# Altium schematic symbol library aiskylab-06IC-04PWR.SchLib: 16 symbols
Pins are listed as number, name and electrical type; pins without a type are passive.

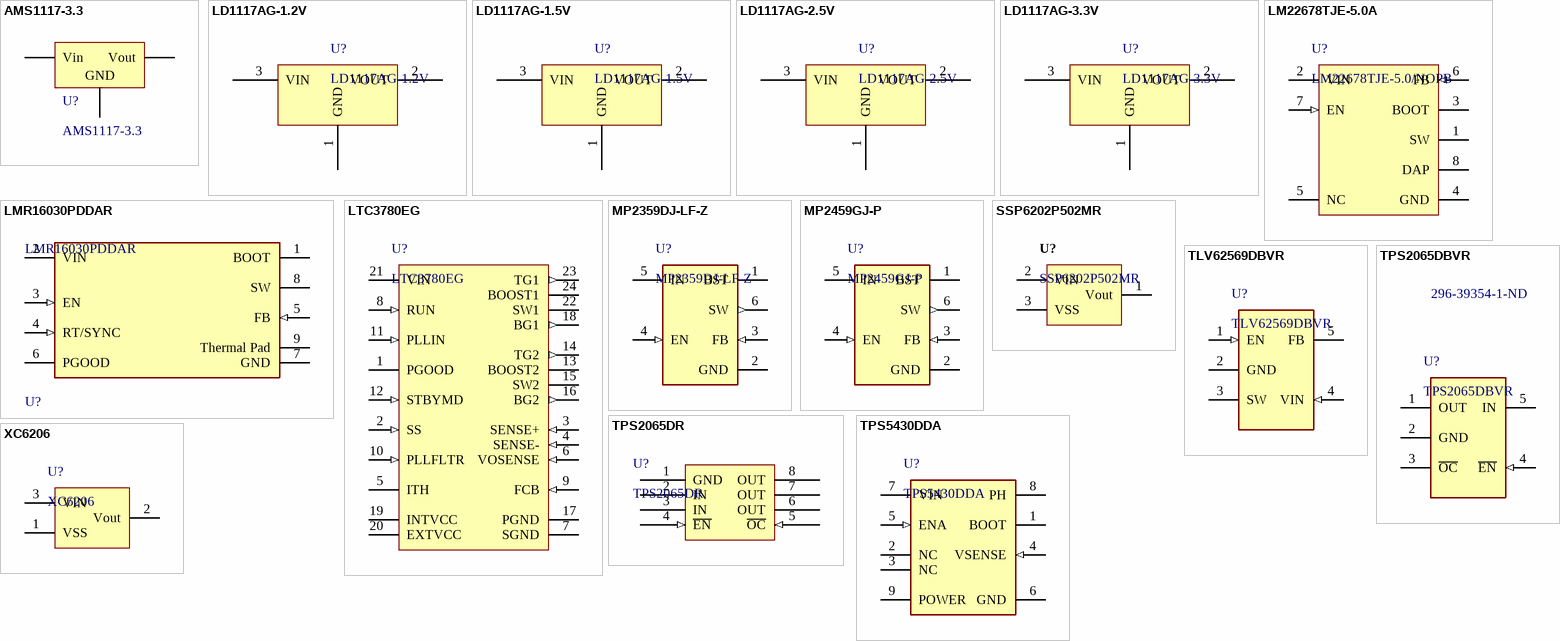
[diagram p0: symbols AMS1117-3.3 to XC6206]

## AMS1117-3.3
designator U?
低压差线性稳压(LDO); ComponentLink1Description: 供应商链接; ComponentLink1URL: http://www.szlcsc.com/product/details_6652.html; Package: SOT-223; Supplier: LC; SuppliersPartNumber: C6186
footprint SOT-223
pins: 1 GND, 2 Vout, 3 Vin

## LD1117AG-1.2V
designator U?
LDO, 输出类型：固定 最大输入电压：18V 输出电流：1A
footprint SOT-223
pins: 1 GND, 2 VOUT, 3 VIN

## LD1117AG-1.5V
designator U?
LDO, 输出类型：固定 最大输入电压：18V 输出电流：1A
footprint SOT-223
pins: 1 GND, 2 VOUT, 3 VIN

## LD1117AG-2.5V
designator U?
LDO, 输出类型：固定 最大输入电压：18V 输出电流：1A
footprint SOT-223
pins: 1 GND, 2 VOUT, 3 VIN

## LD1117AG-3.3V
designator U?
LDO, 输出类型：固定 最大输入电压：18V 输出电流：1A
footprint SOT-223
pins: 1 GND, 2 VOUT, 3 VIN

## LM22678TJE-5.0A
designator U?, comment LM22678TJE-5.0/NOPB
5A SIMPLE SWITCHER®, Step-Down Voltage Regulator with Precision Enable, 7-pin TO-263 Thin, Pb-Free; Manufacturer: National Semiconductor; PackageTopMarking: NSUZXYTTE#*LM22678*TJ-5.0; PowerWise: N; PackageDescription: Thin TO-263, Molded, 9.85 x 10.16 x 2mm Body, 7 Lead, 1.27mm Pitch, Surface Mount; ComponentLink1Description: LM22678 Datasheet; ComponentLink2Description: LM22678 Web Page; ComponentLink1URL: http://www.national.com/ds/LM/LM22678.pdf; DatasheetVersion: Dec-2010; PinCount: 7; RevisionNote: DatasheetVersion Updated. Component URLs added; ComponentLink2URL: http://www.national.com/pf/LM/LM22678.html; RoHS: Y; ComponentLink3URL: http://www.national.com/packaging/folders/tj7a.html; PackageReference: TJ7A; CompType: Switcher; PackageVersion: revC, Jan-2008; ComponentLink3Description: TJ7A Package Page
footprint TJ7A_M (D2-PAK, 8-Leads, Body 9.9x10.2mm, Pitch 1.27mm, Lead Span 14mm, IPC Low Density)
footprint TJ7A_N (D2-PAK, 8-Leads, Body 9.9x10.2mm, Pitch 1.27mm, Lead Span 14mm, IPC Medium Density)
footprint TJ7A_L (D2-PAK, 8-Leads, Body 9.9x10.2mm, Pitch 1.27mm, Lead Span 14mm, IPC High Density)
pins: 1 SW (power), 2 VIN (power), 3 BOOT, 4 GND (power), 5 NC, 6 FB (in), 7 EN (in), 8 DAP (power)

## LMR16030PDDAR
designator U?
IC REG BUCK ADJUSTABLE 3A 8SOPWR; Output Configuration: Positive; Min Output Voltage: 800mV; Min Input Voltage: 4.3V; Switching Frequency: 2.5MHz; Quiescent Current: 40uA; Synchronous Rectifier: No; Number of Outputs: 1; Max Input Voltage: 60V; Max Output Voltage: 50V; Mount: Surface Mount; Output Type: Adjustable; Min Operating Temperature: -40°C; RoHS Compliant: Yes; Packaging: Tape and Reel; Output Current: 3A; Lead Free: Lead Free; Max Operating Temperature: 125°C; Number of Pins: 8; ComponentLink1Description: Datasheet; ComponentLink1URL: https://www.ti.com/cn/lit/ds/symlink/lmr16030.pdf?ts=1618194224073
footprint FP-DDA0008E-IPC_B
footprint FP-DDA0008E-IPC_C
footprint FP-DDA0008E-MFG
footprint FP-DDA0008E-IPC_A
pins: 1 BOOT, 2 VIN (power), 3 EN (in), 4 RT/SYNC (in), 5 FB (in), 6 PGOOD (oc), 7 GND (power), 8 SW, 9 Thermal Pad

## LTC3780EG
designator U?
Buck-boost Controller, Constant Frequency, Current Mode Control with Power Good Output, 24-pin SOP (G-24), -40 to 85 degC; Manufacturer: Linear Technology; Frequency Sync Range: 200kHz - 400kHz; Number of Outputs: 1; ComponentLink3URL: http://cds.linear.com/docs/en/packaging/SSOP_24_05-08-1640.pdf; PartNumber: LTC3780EG; PackageVersion: Jun-10; ComponentLink2URL: http://cds.linear.com/docs/en/datasheet/3780ff.pdf; ComponentLink2Description: Datasheet; ComponentLink1URL: http://www.linear.com/; DatasheetVersion: Rev. F; PackageDescription: 24-Pin Plastic SSOP, Body 8.2 x 5.3 mm, Pitch 0.65 mm; RoHS: FALSE; PackageReference: G-24; ComponentLink1Description: Manufacturer URL; ComponentLink3Description: Package Specification; Mounting Technology: Surface Mount
footprint LT-G-24_N (SOP, 24-Leads, Body 8.5x5.6mm, Pitch 0.65mm, IPC Medium Density)
footprint LT-G-24_M (SOP, 24-Leads, Body 8.5x5.6mm, Pitch 0.65mm, IPC Low Density)
footprint LT-G-24_L (SOP, 24-Leads, Body 8.5x5.6mm, Pitch 0.65mm, IPC High Density)
pins: 1 PGOOD (oc) "Open-Drain Logic Output. PGOOD is pulled to ground when the output voltage is not within +/-7.5% of the regulation point.", 2 SS (in) "Soft-start reduces the input power sources?surge currents by gradually increasing the controller抯 current limit. A minimum value of 6.8nF is recommended on this pin.", 3 SENSE+ (in) "The (+) Input to the Current Sense and Reverse Current Detect Comparators. The ITH pin voltage and built-in offsets between SENSE- and SENSE+ pins, in conjunction with RSENSE, set the current trip threshold.", 4 SENSE- (in) "The (-) Input to the Current Sense and Reverse Current Detect Comparators.", 5 ITH "Current Control Threshold and Error Amplifier Compensation Point. The current comparator threshold increases with this control voltage. The voltage ranges from 0V to 2.4V.", 6 VOSENSE (in) "Error Amplifier Feedback Input. This pin connects the error amplifier input to an external resistor divider from VOUT.", 7 SGND (power) "Signal Ground. All small-signal components and compensation components should connect to this ground, which should be connected to PGND at a single point. The QFN exposed pad must be soldered to PCB ground for electrical (See Datasheet)", 8 RUN (in) "Run Control Input. Forcing the RUN pin below 1.5V causes the IC to shut down the switching regulator circuitry. There is a 100k resistor between the RUN pin and SGND in the IC. Do not apply >6V to this pin.", 9 FCB (in) "Forced Continuous Control Input. The voltage applied to this pin sets the operating mode of the controller. When the applied voltage is less than 0.8V, the forced continuous current mode is active. When this pin is allowed (See Datasheet)", 10 PLLFLTR (in) "The phase-locked loop抯 lowpass filter is tied to this pin. Alternatively, this pin can be driven with an AC or DC voltage source to vary the frequency of the internal oscillator.", 11 PLLIN (in) "External Synchronization Input to Phase Detector. This pin is internally terminated to SGND with 50kohm. The phase-locked loop will force the rising bottom gate signal of the controller to be synchronized with the rising (See Datasheet)", 12 STBYMD (in) "LDO Control Pin. Determines whether the internal LDO remains active when the controller is shut down. See Operation section for details. If the STBYMD pin is pulled to ground, the SS pin is internally pulled to ground, (See Datasheet)", 13 BOOST2 "Boosted Floating Driver Supply. The (+) terminal of the bootstrap capacitor CA and CB (Figure 11) connects here. The BOOST2 pin swings from a diode voltage below INTVCC up to VIN+ INTVCC. The BOOST1 pin swings from a diode (See Datasheet)", 14 TG2 (out) "Top Gate Drive. Drives the top N-channel MOSFET with a voltage swing equal to INTVCC superimposed on the switch node voltage SW", 15 SW2 "Switch Node. The (-) terminal of the bootstrap capacitor CA and CB (Figure 11) connects here. The SW2 pin swings from a Schottky diode (external) voltage drop below ground up to VIN. The SW1 pin swings from a Schottky diode (See Datasheet)", 16 BG2 (out) "Bottom Gate Drive. Drives the gate of the bottom N-channel MOSFET between ground and INTVCC.", 17 PGND (power) "Power Ground. Connect this pin closely to the source of the bottom N-channel MOSFET, the (-) terminal of CVCC and the (-) terminal of CIN (Figure 11).", 18 BG1 (out) "Bottom Gate Drive. Drives the gate of the bottom N-channel MOSFET between ground and INTVCC.", 19 INTVCC (power) "Internal 6V Regulator Output. The driver and control circuits are powered from this voltage. Bypass this pin to ground with a minimum of 4.7uF low ESR tantalum or ceramic capacitor", 20 EXTVCC (power) "External VCC Input. When EXTVCC exceeds 5.7V, an internal switch connects this pin to INTVCC and shuts down the internal regulator so that the controller and gate drive power is drawn from EXTVCC. Do not exceed 7V at this (See Datasheet)", 21 VIN (power) "Main Input Supply. Bypass this pin to SGND with an RC filter (1ohm, 0.1uF).", 22 SW1 "Switch Node. The (-) terminal of the bootstrap capacitor CA and CB (Figure 11) connects here. The SW2 pin swings from a Schottky diode (external) voltage drop below ground up to VIN. The SW1 pin swings from a Schottky diode (See Datasheet)", 23 TG1 (out) "Top Gate Drive. Drives the top N-channel MOSFET with a voltage swing equal to INTVCC superimposed on the switch node voltage SW", 24 BOOST1 "Boosted Floating Driver Supply. The (+) terminal of the bootstrap capacitor CA and CB (Figure 11) connects here. The BOOST2 pin swings from a diode voltage below INTVCC up to VIN+ INTVCC. The BOOST1 pin swings from a diode (See Datasheet)"

## MP2359DJ-LF-Z
designator U?
IC REG BUCK ADJ 1.2A TSOT23-6; Manufacturer: Monolithic Power Systems; Min Output Voltage: 810mV; Max Output Voltage: 15V; Switching Frequency: 1.4MHz; Synchronous Rectifier: No; Output Type: Adjustable; Output Configuration: Positive; Number of Outputs: 1; Min Input Voltage: 4.5V; Max Input Voltage: 24V; Efficiency: 92%; Supplier 1: Digi-Key; Manufacturer Part Number: MP2359DJ-LF-Z; RoHS: Yes; Category: Voltage Regulators - Switching; Stock 1: 1778; Pricing 1: 1=2.48000, 10=2.22600, 25=2.10000, 100=1.68000, 250=1.47000, 500=1.42800, 1000=1.13400 (USD); Mount: Surface Mount; Case/Package: SOT-23-6; Number of Pins: 6; Contact Plating: Tin,Matte; Min Operating Temperature: -40°C; Max Operating Temperature: 85°C; Output Current: 1.2A; Output Voltage: 15V; Packaging: Tape and Reel; Operating Supply Voltage: 24V; Max Output Current: 1.2A; Package Quantity: 3000; Radiation Hardening: No; Lead Free: Lead Free; ComponentLink1URL: http://www.mouser.com/ds/2/277/MP2359_r1.21-477634.pdf?src-supplier=Mouser; ComponentLink1Description: http://www.mouser.com/ds/2/277/MP2359_r1.21-477634.pdf?src-supplier=Mouser; ComponentLink2URL: http://www.monolithicpower.com/DesktopModules/DocumentManage/API/Document/getDocument?id=269&src-supplier=Digi-Key; ComponentLink2Description: http://www.monolithicpower.com/DesktopModules/DocumentManage/API/Document/getDocument?id=269&src-supplier=Digi-Key; ComponentLink3URL: http://www.monolithicpower.com/Page/DownLoad.aspx?ListID=149b7d2b-0bb2-4ba6-a219-a0495acb8b0b&&ItemID=10&src-supplier=Avnet; ComponentLink3Description: http://www.monolithicpower.com/Page/DownLoad.aspx?ListID=149b7d2b-0bb2-4ba6-a219-a0495acb8b0b&&ItemID=10&src-supplier=Avnet; ComponentLink4URL: https://www.monolithicpower.com/pub/media/document/MP2359_r1.21.pdf?src-supplier=Digi-Key; ComponentLink4Description: https://www.monolithicpower.com/pub/media/document/MP2359_r1.21.pdf?src-supplier=Digi-Key; ComponentLink5URL: http://www.monolithicpower.com/DesktopModules/DocumentManage/API/Document/GetDocument?id=269&src-supplier=Avnet+Asia; ComponentLink5Description: http://www.monolithicpower.com/DesktopModules/DocumentManage/API/Document/GetDocument?id=269&src-supplier=Avnet+Asia; Supplier Part Number 1: 1589-1889-1-ND
footprint FP-MP2359DJ-P-IPC_A (TSOT23-6)
footprint FP-MP2359DJ-P-IPC_B (TSOT23-6)
footprint FP-MP2359DJ-P-IPC_C (TSOT23-6)
footprint FP-MP2359DJ-P-MFG (TSOT23-6)
pins: 1 BST, 2 GND (power), 3 FB (in), 4 EN (in), 5 IN (power), 6 SW (out)

## MP2459GJ-P
designator U?
IC Reg Buck Adj 500MA TSOT23-6; Manufacturer: Monolithic Power Systems; Number of Outputs: 1; Output Voltage: 52.25V; Min Input Voltage: 4.5V; Max Input Voltage: 55V; Efficiency: 90%; Switching Frequency: 480kHz; Min Output Voltage: 810mV; Synchronous Rectifier: No; Output Type: Adjustable; Output Configuration: Positive; Supplier 1: Digi-Key; Manufacturer Part Number: MP2459GJ-P; RoHS: Yes; Category: Power Supply Modules; Stock 1: 1448; Pricing 1: 1=1.65000, 10=1.48400, 25=1.40000, 100=1.12000, 250=0.98000 (USD); Mount: Surface Mount; Case/Package: SOT-23-6; Number of Pins: 6; Contact Plating: Tin,Matte; Min Operating Temperature: -40°C; Max Operating Temperature: 125°C; Max Output Current: 500mA; Output Current: 500mA; Packaging: Tape and Reel; Max Output Voltage: 52.25V; Operating Supply Voltage: 55V; Package Quantity: 500; Min Supply Voltage: 4.5V; Radiation Hardening: No; ComponentLink1URL: http://www.mouser.com/ds/2/277/MP2459_r1.01-526367.pdf?src-supplier=Mouser; ComponentLink1Description: http://www.mouser.com/ds/2/277/MP2459_r1.01-526367.pdf?src-supplier=Mouser; ComponentLink2URL: http://www.monolithicpower.com/Lists/Product_NonSynchronous%20Switcher_5727/DispForm.aspx?ID=87&src-supplier=Avnet+Asia; ComponentLink2Description: http://www.monolithicpower.com/Lists/Product_NonSynchronous%20Switcher_5727/DispForm.aspx?ID=87&src-supplier=Avnet+Asia; ComponentLink3URL: https://www.monolithicpower.com/pub/media/document/MP2459_r1.01.pdf?src-supplier=Digi-Key; ComponentLink3Description: https://www.monolithicpower.com/pub/media/document/MP2459_r1.01.pdf?src-supplier=Digi-Key; ComponentLink4URL: http://www.monolithicpower.com/Lists/Product_NonSynchronous%20Switcher_5727/DispForm.aspx?ID=87&src-supplier=Avnet; ComponentLink4Description: http://www.monolithicpower.com/Lists/Product_NonSynchronous%20Switcher_5727/DispForm.aspx?ID=87&src-supplier=Avnet; ComponentLink5URL: http://www.monolithicpower.com/Portals/0/Documents/Products/Documents/datasheet/MP2459_r1.01.pdf?src-supplier=Digi-Key; ComponentLink5Description: http://www.monolithicpower.com/Portals/0/Documents/Products/Documents/datasheet/MP2459_r1.01.pdf?src-supplier=Digi-Key; Supplier Part Number 1: 1589-1121-1-ND
footprint FP-MP2459GJ-P-IPC_A
footprint FP-MP2459GJ-P-IPC_B
footprint FP-MP2459GJ-P-IPC_C
footprint FP-MP2459GJ-P-MFG
pins: 1 BST, 2 GND (power), 3 FB (in), 4 EN (in), 5 IN (power), 6 SW (out)

## SSP6202P502MR
designator U?
电流150mA,5.0V输出; Supplier: JLC; SupplierPartNumber: C330936; ComponentLink1Description: Datasheet; ComponentLink1URL: https://atta.szlcsc.com/upload/public/pdf/source/20181113/C330936_702CDFC7F09BD193B5A5623B1287737D.pdf.
footprint SOT23 (SOT23, 3-Leads, Body 2.90x2.45mm, Pitch 0.95mm, IPC Medium Density)
pins: 1 Vout (power), 2 VIN (power), 3 VSS (power)

## TLV62569DBVR
designator U?
2.5-5.5V Input Voltage Range,1-A HIGH EFFICIENCY STEP-DOWN,; Manufacturer: Texas Instruments; Output Current: 2A; Switching Frequency: 1.5MHz; Output Type: Adjustable; Output Configuration: Positive; Min Input Voltage: 2.5V; Max Input Voltage: 5.5V; Min Output Voltage: 600mV; Synchronous Rectifier: Yes; Supplier 1: Digi-Key; Manufacturer Part Number: TLV62569DBVR; RoHS: No; Category: Voltage Regulators - Switching; Stock 1: 3341; Pricing 1: 1=0.53000, 10=0.45400, 25=0.42360, 100=0.31460, 250=0.26620, 500=0.25410, 1000=0.18755 (USD); Mount: Surface Mount; Case/Package: SOT-23-5; Min Operating Temperature: -40°C; Max Operating Temperature: 125°C; Packaging: Cut Tape; Max Output Voltage: 5.5V; ComponentLink1URL: http://www.ti.com/lit/ds/symlink/tlv62569.pdf?src-supplier=Farnell; ComponentLink1Description: http://www.ti.com/lit/ds/symlink/tlv62569.pdf?src-supplier=Farnell; ComponentLink2URL: http://www.ti.com/lit/ds/symlink/tlv62569.pdf?src-supplier=Digi-Key; ComponentLink2Description: http://www.ti.com/lit/ds/symlink/tlv62569.pdf?src-supplier=Digi-Key; Supplier Part Number 1: 296-47360-1-ND
footprint SOT95P245X110-5N (SOT23, 5-Leads, Body 2.90x2.45mm, Pitch 0.95mm, IPC Medium Density)
pins: 1 EN (in), 2 GND (power), 3 SW (power), 4 VIN (in), 5 FB (power)

## TPS2065DBVR
designator U?  Supplier Part Number 1: 296-39354-1-ND
TEXAS INSTRUMENTS - TPS2065DBVR . - Spínac Výkonové Záteže, High Side, Aktivní Vysoká, 1 Výstup, 5.5 V, 1.5 A, 0.07 ohm, SOT-23-5; Interface: On/Off; Max Output Current: 1A; Min Supply Voltage: 2.7V; Max Supply Voltage: 5.5V; Number of Outputs: 1; Fault Protection: Over Temperature; Supplier 1: Digi-Key; Manufacturer: Texas Instruments; Manufacturer Part Number: TPS2065DBVR; RoHS: Yes; Category: Hot Swap Controllers; Stock 1: 16341; Pricing 1: 1=1.31000, 10=1.16800, 25=1.10880, 100=0.85140, 250=0.75240, 500=0.71280, 1000=0.55440 (USD); Mount: Surface Mount; Case/Package: SOT-23-5; Number of Pins: 5; Min Operating Temperature: -40°C; Max Operating Temperature: 85°C; Package Quantity: 3000; Packaging: Tape and Reel; Output Configuration: High Side; Radiation Hardening: No; Lead Free: Lead Free; ComponentLink1URL: https://datasheet.ciiva.com/26882/tps2065dbvr-26882088.pdf?src-supplier=IIIC; ComponentLink1Description: https://datasheet.ciiva.com/26882/tps2065dbvr-26882088.pdf?src-supplier=IIIC; ComponentLink2URL: https://datasheet.ciiva.com/1963/tps2061-1963541.pdf?src-supplier=Digi-Key; ComponentLink2Description: https://datasheet.ciiva.com/1963/tps2061-1963541.pdf?src-supplier=Digi-Key
footprint SOT95P245X110-5N (SOT23, 5-Leads, Body 2.90x2.45mm, Pitch 0.95mm, IPC Medium Density)
pins: 1 OUT (power), 2 GND (power), 3 ~{OC} (power), 4 ~{EN} (in), 5 IN (power)

## TPS2065DR
designator U?
IC POWER DIST SW 8SOIC; Manufacturer: Texas Instruments; Number of Outputs: 1; Min Supply Voltage: 2.7V; Max Supply Voltage: 5.5V; On-State Resistance: 70mR; Nominal Supply Current: 1A; Turn-Off Delay Time: 10ms; Turn-On Delay Time: 3ms; Max Power Dissipation: 585.82mW; Supplier 1: Digi-Key; Manufacturer Part Number: TPS2065DR; RoHS: Yes; Category: Hot Swap Controllers; Stock 1: 2411; Pricing 1: 1=1.31000, 10=1.16800, 25=1.10880, 100=0.85140, 250=0.75240, 500=0.71280, 1000=0.55440 (USD); Case/Package: D; Number of Pins: 8; Weight: 0.002561oz; Min Operating Temperature: -40°C; Max Operating Temperature: 85°C; Packaging: Tape and Reel; Package Quantity: 1; Max Input Voltage: 5.5V; Min Input Voltage: 2.7V; Output Current: 1A; Radiation Hardening: No; Lead Free: Lead Free; REACH SVHC: No SVHC; ComponentLink1URL: https://datasheet.ciiva.com/15108/getdatasheetpartid-252926-15108491.pdf?src-supplier=Verical; ComponentLink1Description: https://datasheet.ciiva.com/15108/getdatasheetpartid-252926-15108491.pdf?src-supplier=Verical; ComponentLink2URL: https://datasheet.ciiva.com/46418/1831092-46418988.pdf?src-supplier=Element14; ComponentLink2Description: https://datasheet.ciiva.com/46418/1831092-46418988.pdf?src-supplier=Element14; ComponentLink3URL: https://datasheet.ciiva.com/1962/tps2061-1962461.pdf?src-supplier=Digi-Key; ComponentLink3Description: https://datasheet.ciiva.com/1962/tps2061-1962461.pdf?src-supplier=Digi-Key; ComponentLink4URL: https://datasheet.ciiva.com/3235/tps2065-3235019.pdf?src-supplier=Avnet; ComponentLink4Description: https://datasheet.ciiva.com/3235/tps2065-3235019.pdf?src-supplier=Avnet; ComponentLink5URL: https://datasheet.ciiva.com/1962/tps2061-1962460.pdf?src-supplier=Digi-Key; ComponentLink5Description: https://datasheet.ciiva.com/1962/tps2061-1962460.pdf?src-supplier=Digi-Key; ComponentLink6URL: https://datasheet.ciiva.com/1962/tps2061-1962462.pdf?src-supplier=Digi-Key; ComponentLink6Description: https://datasheet.ciiva.com/1962/tps2061-1962462.pdf?src-supplier=Digi-Key; Supplier Part Number 1: 296-17315-1-ND
footprint SOIC-8 (SOIC, 8-Leads, Body 4.91x3.90mm, Pitch 1.27mm, IPC Medium Density)
pins: 1 GND (power), 2 IN (power), 3 IN (power), 4 ~{EN} (in), 5 ~{OC} (in), 6 OUT (power), 7 OUT (power), 8 OUT (power)

## TPS5430DDA
designator U?
5.5V to 36V Input, 3A, 500kHz Step-Down Converter 8-SO PowerPAD 0 to 0; Manufacturer: Texas Instruments; Output Voltage: 31V; Number of Outputs: 1; Synchronous Rectifier: No; Output Type: Adjustable; Quiescent Current: 3mA; Min Output Voltage: 1.22V; Efficiency: 95%; Supplier 1: Digi-Key; Manufacturer Part Number: TPS5430DDA; RoHS: Yes; Category: Voltage Regulators - Switching; Stock 1: 5474; Pricing 1: 1=4.62000, 10=4.14600, 25=3.91960, 100=3.22270, 250=2.89172, 500=2.78720, 1000=2.31686, 2500=2.22976 (USD); Mount: Surface Mount; Case/Package: SOIC; Number of Pins: 8; Weight: 0.00249oz; Min Operating Temperature: -40°C; Max Operating Temperature: 125°C; Switching Frequency: 500kHz; Output Current: 3A; Package Quantity: 75; Packaging: Rail/Tube; Min Input Voltage: 5.5V; Max Input Voltage: 36V; Max Output Voltage: 31V; Max Output Current: 3A; Operating Supply Voltage: 36V; Length: 5mm; Height: 1.55mm; Width: 4mm; Radiation Hardening: No; Lead Free: Lead Free; REACH SVHC: No SVHC; ComponentLink1URL: https://datasheet.ciiva.com/15113/getdatasheetpartid-234473-15113424.pdf?src-supplier=Verical; ComponentLink1Description: https://datasheet.ciiva.com/15113/getdatasheetpartid-234473-15113424.pdf?src-supplier=Verical; ComponentLink2URL: https://datasheet.ciiva.com/27051/1113074-27051458.pdf?src-supplier=Jameco; ComponentLink2Description: https://datasheet.ciiva.com/27051/1113074-27051458.pdf?src-supplier=Jameco; ComponentLink3URL: https://datasheet.ciiva.com/26896/tps5430dda-26896658.pdf?src-supplier=IIIC; ComponentLink3Description: https://datasheet.ciiva.com/26896/tps5430dda-26896658.pdf?src-supplier=IIIC; ComponentLink4URL: https://datasheet.ciiva.com/26098/tps5430-26098807.pdf?src-supplier=Avnet+Europe; ComponentLink4Description: https://datasheet.ciiva.com/26098/tps5430-26098807.pdf?src-supplier=Avnet+Europe; ComponentLink5URL: https://datasheet.ciiva.com/7993/1849779-7993829.pdf?src-supplier=Element14; ComponentLink5Description: https://datasheet.ciiva.com/7993/1849779-7993829.pdf?src-supplier=Element14; ComponentLink6URL: https://datasheet.ciiva.com/2026/tps5431-2026795.pdf?src-supplier=Digi-Key; ComponentLink6Description: https://datasheet.ciiva.com/2026/tps5431-2026795.pdf?src-supplier=Digi-Key; Supplier Part Number 1: 296-19447-5-ND
footprint DDA0008J_L (SOP, 8-Leads, Body 5x4mm, Pitch 1.27mm, Thermal Pad 3.2x2.69mm, IPC High Wizard)
footprint DDA0008J_M (SOP, 8-Leads, Body 5x4mm, Pitch 1.27mm, Thermal Pad 3.2x2.69mm, IPC Low Wizard)
footprint DDA0008J_N (SOP, 8-Leads, Body 5x4mm, Pitch 1.27mm, Thermal Pad 3.2x2.69mm, IPC Medium Wizard)
pins: 1 BOOT "Boost capacitor for the high-side FET gate driver. Connect 0.01-mF low ESR capacitor from BOOT pin to PH pin.", 2 NC "Not connected internally", 3 NC "Not connected internally", 4 VSENSE (in) "Feedback voltage for the regulator. Connect to output voltage divider.", 5 ENA (in) "On/off control. Below 0.5 V, the device stops switching. Float the pin to enable.", 6 GND (power) "Ground. Connect to thermal pad.", 7 VIN (power) "Input supply voltage. Bypass VIN pin to GND pin close to device package with a high-quality low-ESR ceramic capacitor.", 8 PH (power) "Source of the high side power MOSFET. Connected to external inductor and diode.", 9 POWER (power) "GND pin must be connected to the exposed pad for proper operation."

## XC6206
designator U?
高纹波抑制率、低功耗、低压差，具有过流和短路保护的CMOS降压型电压稳压器。在输入、输出电压差极小的情况下提供250mA的输出 / 电流，并且仍能保持良好的调整率; VinMax: 8V; ComponentLink1Description: Datasheet; ComponentLink1URL: http://www.umw-ic.com/UploadFiles/img/2020/5/21/5510c7f6-ce7f-4155-aa3a-5a143d936bfd.pdf
footprint SOT23 (SOT23, 3-Leads, Body 2.90x2.45mm, Pitch 0.95mm, IPC Medium Density)
pins: 1 VSS (power), 2 Vout (power), 3 VIN (power)